# Altium schematic symbol library CAHCT1G14QDCKRQ1.SchLib: 1 symbol
Pins are listed as number, name and electrical type; pins without a type are passive.

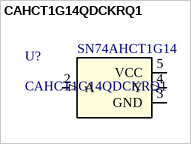
[diagram p0: symbol CAHCT1G14QDCKRQ1]

## CAHCT1G14QDCKRQ1
designator U?
No Description Available; Mfr_Name: Texas Instruments; Type: DEV; Copyright: Copyright (C) 2023 Ultra Librarian. All rights reserved.; Manufacturer_Part_Number: CAHCT1G14QDCKRQ1; RefDes: RefDes
footprint DCK5_TEX
pins: 2 A (in), 3 GND, 4 Y (out), 5 VCC (power)
text: SN74AHCT1G14